# Altium footprint library doan2.PcbLib: 29 footprints (part 1 of 2)
Each footprint in its own frame and in the unit in brackets; x right, y up, seen from the top. Pads: shape width x height; smd on the part's side, far side on the other; paste and mask are expansions set on the pad; w line width, h text height; cw(c..) or ccw(c..) is an arc to the next point about the centre after c.
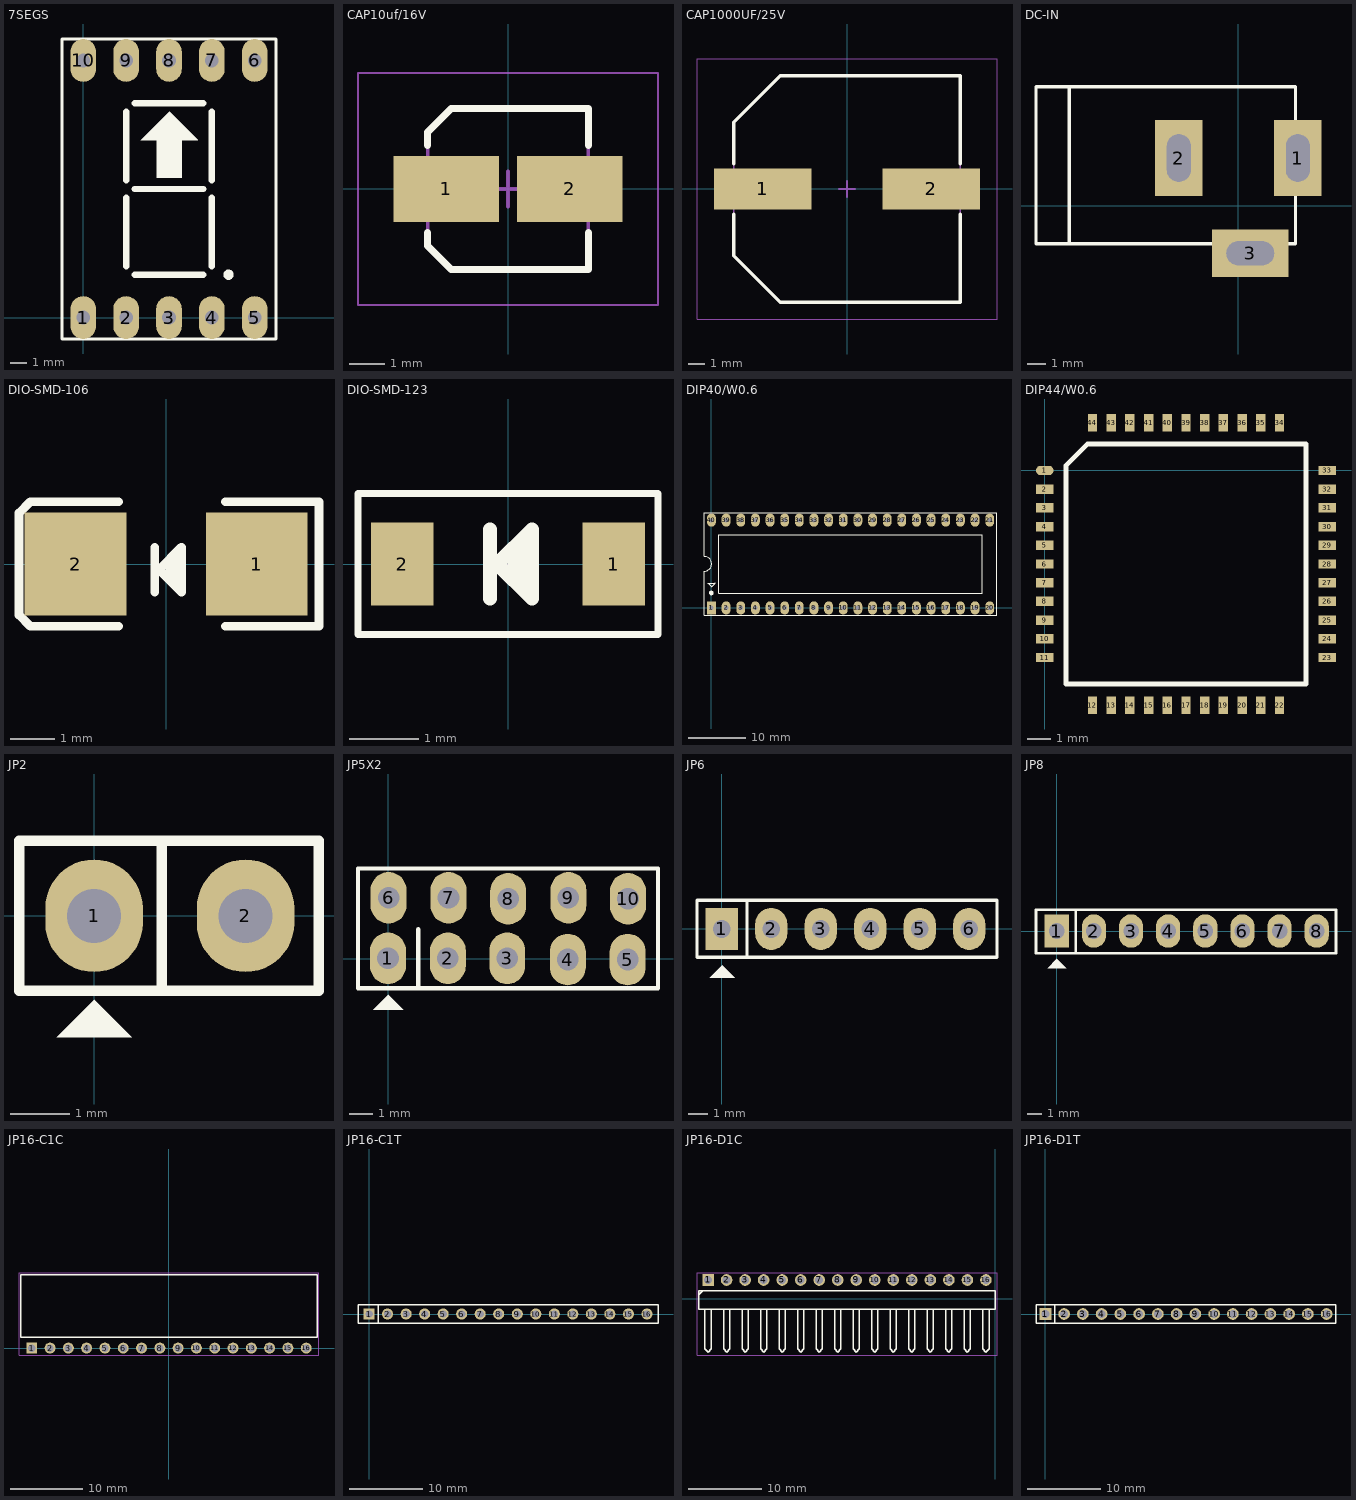
[diagram p0: the footprints below, top view; thin cyan lines are the x and y axes]

## 7SEGS [mil] "DIP 10 Leads; Body 12 x 15 mm; Pitch 0.5 mm"
height 300
pads (10):
  oval 60x100 hole 32: 1(0,0) 2(100,0) 3(200,0) 4(300,0) 5(400,0) 6(400,600) 7(300,600) 8(200,600) 9(100,600) 10(0,600)
Top Overlay:
  circle w12: c339,100 r6
  region: 134,414 200,480 202,480 267,415 267,414 230,414 230,326 171,326 171,414
  lines w7: -50,-50 450,-50 450,650 -50,650 -50,-50
  lines w15: 100,120 100,280 ; 100,120 100,280 ; 100,120 100,280 ; 100,120 100,280 ; 100,120 100,280 ; 100,120 100,280 ; 100,120 100,280 ; 100,120 100,280 ; 100,320 100,480 ; 100,320 100,480 ; 100,320 100,480 ; 100,320 100,480 ; 100,320 100,480 ; 100,320 100,480 ; 100,320 100,480 ; 100,320 100,480 ; 120,100 280,100 ; 120,100 280,100 ; 120,100 280,100 ; 120,100 280,100 ; 120,300 280,300 ; 120,300 280,300 ; 120,300 280,300 ; 120,300 280,300 ; 120,300 280,300 ; 120,300 280,300 ; 120,300 280,300 ; 120,300 280,300 ; 120,500 280,500 ; 120,500 280,500 ; 120,500 280,500 ; 120,500 280,500 ; 300,120 300,280 ; 300,120 300,280 ; 300,120 300,280 ; 300,120 300,280 ; 300,120 300,280 ; 300,120 300,280 ; 300,120 300,280 ; 300,120 300,280 ; 300,320 300,480 ; 300,320 300,480 ; 300,320 300,480 ; 300,320 300,480 ; 300,320 300,480 ; 300,320 300,480 ; 300,320 300,480 ; 300,320 300,480
3D body "SW3dPS-Disp_SA56-11.STEP": height 316.25, standoff -156.19, extent -50,-75 450,675

## CAP10uf/16V [mm] "Aluminum Electrolytic Capacitor, Body 4.30x4.30x5.50mm, IPC Low Density"
height 5.5
pads (2):
  rect 2.95x1.85 smd: 1(-1.725,0) 2(1.725,0)
Top Overlay:
  lines w0.2: -2.25,-1.225 -2.25,-1.587 -1.587,-2.25 2.25,-2.25 2.25,-1.225 ; -2.25,1.225 -2.25,1.587 -1.587,2.25 2.25,2.25 2.25,1.225
Mechanical 13:
  lines w0.1: -2.25,-1.587 -1.587,-2.25 2.25,-2.25 2.25,2.25 -1.587,2.25 -2.25,1.587 -2.25,-1.587
Mechanical 15:
  lines w0.05: -4.2,-3.25 -4.2,3.25 4.2,3.25 4.2,-3.25 -4.2,-3.25
  lines w0.1: -0.5,0 0.5,0 ; 0,-0.5 0,0.5
3D body "User Library-UWT1C100MCL1GB.STEP": height 5.63, standoff 0.2, extent -2.441,-2.268 2.159,2.032

## CAP1000UF/25V [mm] "Aluminum Electrolytic Capacitor, Body 13.50x13.50x13.50mm, IPC Low Density"
height 13.5
pads (2):
  rect 5.85x2.45 smd: 1(-5.05,0) 2(5.05,0)
Top Overlay:
  lines w0.2: -6.8,-1.525 -6.8,-4.013 -4.012,-6.8 6.8,-6.8 6.8,-1.525 ; -6.8,1.525 -6.8,4.012 -4.012,6.8 6.8,6.8 6.8,1.525
Mechanical 13:
  lines w0.1: -6.8,-4.013 -4.012,-6.8 6.8,-6.8 6.8,6.8 -4.012,6.8 -6.8,4.012 -6.8,-4.013
Mechanical 15:
  lines w0.05: -9,-7.8 -9,7.8 9,7.8 9,-7.8 -9,-7.8
  lines w0.1: -0.5,0 0.5,0 ; 0,-0.5 0,0.5
3D body "CAPAE138135X135M.step": height 13.5, standoff 0, extent -6.519,-6.8 7.281,6.8

## DC-IN [mil] "Jac DC input"
height 200
pads (3):
  rect 100x160 hole 50 slot 100 at 90 deg: 1(125,100) 2(-125,100)
  rect 160x100 hole 50 slot 100 at 0 deg: 3(25,-100)
Top Overlay:
  lines w7: -355,-80 -355,250 ; -425,-80 120,-80 120,250 -425,250 -425,-80
3D body "SW3dPS-dc range - dc connector[4840.2201].STEP": height 433.67, standoff -137.2, extent -410.35,-105.12 134,269.12

## DIO-SMD-106 [mil]
pads (2):
  rect 90x90.55 smd: 1(80,0) 2(-80,0)
Top Overlay:
  lines w7.87: -42.24,-55 -120,-55 -130,-45 -130,45 -120,55 -42.24,55 ; -10.12,-24.68 -10.12,14.69 ; 3.66,-10.91 3.66,0.91 ; 9.57,-16.81 9.57,6.81 ; 52.24,-55 135,-55 135,55 52.24,55 ; -6.18,-5 13.5,14.69 13.5,-24.68 -6.18,-5
Mechanical 1:
  lines w3.94: -2.87,0 12.87,0 ; 5,-7.87 5,7.87
3D body "User Library-DO-214Aa SMA.step": height 94.69, standoff 0, extent -98.7,-50.27 106.03,52.09

## DIO-SMD-123 [mm]
pads (2):
  rect 0.9x1.2 smd: 1(1.524,0) 2(-1.524,0)
Top Overlay:
  lines w0.102: -2.159,-1.016 -2.159,1.016 2.159,1.016 2.159,-1.016 -2.159,-1.016
  lines w0.2: -0.257,-0.5 -0.257,0.5 ; 0.093,-0.15 0.093,0.15 ; 0.243,-0.3 0.243,0.3 ; -0.157,0 0.343,-0.5 0.343,0.5 -0.157,0
3D body "User Library-SOD-123.step": height 1.25, standoff 0, extent -1.756,-0.8 1.942,0.8

## DIP40/W0.6 [mil] "40 PIN, W 600mil, Pin to pin 100mil"
height 100
pads (40):
  rect 60x90 hole 31: 1(0,0)
  oval 60x90 hole 31: 2(100,0) 3(200,0) 4(300,0) 5(400,0) 6(500,0) 7(600,0) 8(700,0) 9(800,0) 10(900,0) 11(1000,0) 12(1100,0) 13(1200,0) 14(1300,0) 15(1400,0) 16(1500,0) 17(1600,0) 18(1700,0) 19(1800,0) 20(1900,0) 21(1900,600) 22(1800,600) 23(1700,600) 24(1600,600) 25(1500,600) 26(1400,600) 27(1300,600) 28(1200,600) 29(1100,600) 30(1000,600) 31(900,600) 32(800,600) 33(700,600) 34(600,600) 35(500,600) 36(400,600) 37(300,600) 38(200,600) 39(100,600) 40(0,600)
Top Overlay:
  circle w15: c-1,102 r8
  lines w7: -50.38,251.05 ccw(c-48.69,301.02) -50,351 ; -50,251 -50,-50 1950,-50 1950,650 -50,650 -50,352 ; -24,170 -23,170 1,146 1,145 25,169 25,171 24,170 -24,170 ; 50,100 1850,100 1850,500 50,500 50,100
3D body "SW3dPS-DIP40-600.STEP": height 224.41, standoff -101.57, extent -82.48,-10 1982.48,599.84

## DIP44/W0.6 [mm] "44PIN"
pads (44):
  oval 0.75x0.4 smd: 1(0,0)
  rect 0.75x0.4 smd: 2(0,-0.8) 3(0,-1.6) 4(0,-2.4) 5(0,-3.2) 6(0,-4) 7(0,-4.8) 8(0,-5.6) 9(0,-6.4) 10(0,-7.2) 11(0,-8) 23(12.08,-8) 24(12.08,-7.2) 25(12.08,-6.4) 26(12.08,-5.6) 27(12.08,-4.8) 28(12.08,-4) 29(12.08,-3.2) 30(12.08,-2.4) 31(12.08,-1.6) 32(12.08,-0.8) 33(12.08,0)
  rect 0.4x0.75 smd: 12(2.04,-10.04) 13(2.84,-10.04) 14(3.64,-10.04) 15(4.44,-10.04) 16(5.24,-10.04) 17(6.04,-10.04) 18(6.84,-10.04) 19(7.64,-10.04) 20(8.44,-10.04) 21(9.24,-10.04) 22(10.04,-10.04) 34(10.04,2.04) 35(9.24,2.04) 36(8.44,2.04) 37(7.64,2.04) 38(6.84,2.04) 39(6.04,2.04) 40(5.24,2.04) 41(4.44,2.04) 42(3.64,2.04) 43(2.84,2.04) 44(2.04,2.04)
Top Overlay:
  lines w0.2: 0.91,-9.13 0.91,0.22 1.82,1.13 11.17,1.13 11.17,-9.13 0.91,-9.13
3D body "User Library-TQFP44-2.STEP": height 1.01, standoff -0.14, extent 0.084,-9.949 12.108,2.075

## JP2 [mil]
pads (2):
  oval 65x75 hole 36: 1(0,0) 2(101,0)
Top Overlay:
  region: 0,-56 -25,-81 25,-81
  lines w7: 45,-50 45,49 ; -50,-50 -50,50 150,50 150,-50 -50,-50
3D body "JP2.stp": height 323.44, standoff -117.51, extent -48.03,-50 148.03,48.43

## JP5X2 [mil]
pads (10):
  oval 60x86 hole 36: 1(-0.5,0.5) 2(99.5,0.5) 3(198.5,0.5) 4(299.5,-1.5) 5(399.5,-1.5) 6(0.5,101.5) 7(100.5,101.5) 8(200,100) 9(300.5,101.5) 10(400,100)
Top Overlay:
  region: 0,-60 -25,-85 25,-85
  lines w7: 50,-49 50,49 ; -50.5,-49.5 450,-49.5 450,150.5 -50.5,150.5 -50.5,50.5 -50.5,-49.5
3D body "JP5X2.stp": height 335.25, standoff -117.51, extent -49.99,-49.99 450.01,150.01

## JP6 [mil] "JP6"
height 200
pads (6):
  rect 65x85 hole 36: 1(0,0)
  oval 65x85 hole 36: 2(100,0) 3(200,0) 4(300,0) 5(400,0) 6(500,0)
Top Overlay:
  region: 1,-74 -24,-99 26,-99
  lines w7: 51,-57 51,56 ; -50,-57 556,-57 556,58 -50,58 -50,-57
3D body "JP1-6.stp": height 323.43, standoff -117.51, extent -48.03,-50 548.03,48.43

## JP8 [mil] "JP8"
height 200
pads (8):
  rect 65x90 hole 42: 1(0,0)
  oval 65x90 hole 42: 2(100,0) 3(200,0) 4(300,0) 5(400,0) 6(500,0) 7(600,0) 8(700,0)
Top Overlay:
  region: 0,-75 -25,-100 25,-100
  lines w7: 51,-60 51,56 ; -56,-60 -56,57 752,57 752,-60 -56,-60
3D body "JP1-8.stp": height 323.43, standoff -117.51, extent -48.03,-50 748.03,48.43

## JP16-C1C [mm] "16p 1 row Right angle"
height 2.5
pads (16):
  rect 1.52x1.52 hole 1.02: 1(-19.05,0)
  round 1.52 hole 1.02: 2(-16.51,0) 3(-13.97,0) 4(-11.43,0) 5(-8.89,0) 6(-6.35,0) 7(-3.81,0) 8(-1.27,0) 9(1.27,0) 10(3.81,0) 11(6.35,0) 12(8.89,0) 13(11.43,0) 14(13.97,0) 15(16.51,0) 16(19.05,0)
Top Overlay:
  lines w0.2: -20.574,1.524 -20.574,10.173 20.574,10.173 20.574,1.524 -20.574,1.524
Mechanical 15:
  lines w0.1: -20.82,-0.96 20.824,-0.96 20.824,10.423 -20.82,10.423 -20.82,-0.96
3D body "613016143121.stp": height 2.51, standoff -3.08, extent -20.57,-0.208 20.57,10.092

## JP16-C1T [mm] "16 row, straight, gold plating"
height 8.5
pads (16):
  rect 1.52x1.52 hole 1.02: 1(0,0)
  round 1.52 hole 1.02: 2(2.54,0) 3(5.08,0) 4(7.62,0) 5(10.16,0) 6(12.7,0) 7(15.24,0) 8(17.78,0) 9(20.32,0) 10(22.86,0) 11(25.4,0) 12(27.94,0) 13(30.48,0) 14(33.02,0) 15(35.56,0) 16(38.1,0)
Top Overlay:
  lines w0.2: 1.27,-1.27 1.27,1.27 ; -1.52,-1.27 39.62,-1.27 39.62,1.27 0.635,1.27 -1.52,1.27 -1.52,-1.27
3D body "61301611821.stp": height 8.51, standoff -3.09, extent -1.52,-1.25 39.62,1.25

## JP16-D1C [mm] "16 pins, 1 row, right angled, gold plating"
height 2.54
pads (16):
  rect 1.6x1.6 hole 1.1: 1(-39.37,2.54)
  round 1.6 hole 1.1: 2(-36.83,2.54) 3(-34.29,2.54) 4(-31.75,2.54) 5(-29.21,2.54) 6(-26.67,2.54) 7(-24.13,2.54) 8(-21.59,2.54) 9(-19.05,2.54) 10(-16.51,2.54) 11(-13.97,2.54) 12(-11.43,2.54) 13(-8.89,2.54) 14(-6.35,2.54) 15(-3.81,2.54) 16(-1.27,2.54)
Top Overlay:
  lines w0.2: -40.598,0.574 -40.174,0.998 ; -39.793,-1.525 -39.793,-6.919 -39.37,-7.342 -38.947,-6.919 -38.947,-1.5 ; -37.253,-1.525 -37.253,-6.919 -36.83,-7.342 -36.407,-6.919 -36.407,-1.525 ; -34.713,-1.525 -34.713,-6.919 -34.29,-7.342 -33.867,-6.919 -33.867,-1.5 ; -32.173,-1.525 -32.173,-6.919 -31.75,-7.342 -31.327,-6.919 -31.327,-1.525 ; -29.633,-1.525 -29.633,-6.919 -29.21,-7.342 -28.787,-6.919 -28.787,-1.5 ; -27.093,-1.525 -27.093,-6.919 -26.67,-7.342 -26.247,-6.919 -26.247,-1.525 ; -24.553,-1.525 -24.553,-6.919 -24.13,-7.342 -23.707,-6.919 -23.707,-1.5 ; -22.013,-1.525 -22.013,-6.919 -21.59,-7.342 -21.167,-6.919 -21.167,-1.525 ; -19.473,-1.525 -19.473,-6.919 -19.05,-7.342 -18.627,-6.919 -18.627,-1.5 ; -16.933,-1.525 -16.933,-6.919 -16.51,-7.342 -16.087,-6.919 -16.087,-1.525 ; -14.393,-1.525 -14.393,-6.919 -13.97,-7.342 -13.547,-6.919 -13.547,-1.5 ; -11.853,-1.525 -11.853,-6.919 -11.43,-7.342 -11.007,-6.919 -11.007,-1.525 ; -9.313,-1.525 -9.313,-6.919 -8.89,-7.342 -8.467,-6.919 -8.467,-1.5 ; -6.773,-1.525 -6.773,-6.919 -6.35,-7.342 -5.927,-6.919 -5.927,-1.525 ; -4.233,-1.525 -4.233,-6.919 -3.81,-7.342 -3.387,-6.919 -3.387,-1.5 ; -1.693,-1.525 -1.693,-6.919 -1.27,-7.342 -0.847,-6.919 -0.847,-1.525 ; -40.64,-1.5 -40.64,1.04 0,1.04 0,-1.5 -40.64,-1.5
Mechanical 15:
  lines w0.1: -40.89,-7.75 0.25,-7.75 0.25,3.5 -40.89,3.5 -40.89,-7.75
3D body "61301611021.stp": height 2.55, standoff -2.99, extent -40.64,-7.524 0,2.836

## JP16-D1T [mm] "16  pins, 1 row, straight, gold plating"
height 8.54
pads (16):
  rect 1.6x1.6 hole 1.1: 1(0,0)
  round 1.6 hole 1.1: 2(2.54,0) 3(5.08,0) 4(7.62,0) 5(10.16,0) 6(12.7,0) 7(15.24,0) 8(17.78,0) 9(20.32,0) 10(22.86,0) 11(25.4,0) 12(27.94,0) 13(30.48,0) 14(33.02,0) 15(35.56,0) 16(38.1,0)
Top Overlay:
  lines w0.2: 1.27,-1.27 1.27,1.27 ; -1.27,-1.27 39.37,-1.27 39.37,1.27 0.635,1.27 -1.27,1.27 -1.27,-1.27
3D body "61301611121.stp": height 8.54, standoff -3, extent -1.27,-1.27 39.37,1.27